# EAGLE library part MICROUSB (library Nordic_misc)
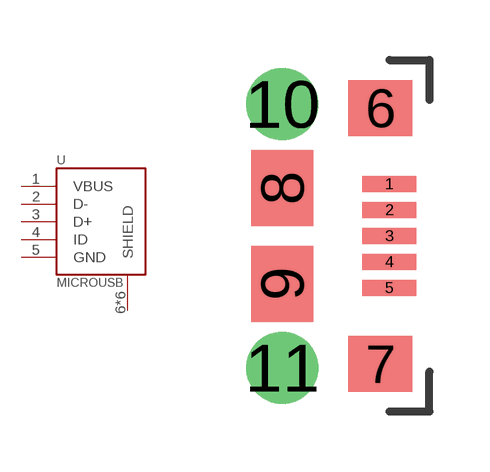
[diagram p1: symbol with the pads of USB-MICRO-B-RA-SMD-PIP; footprint USB-MICRO-B-RA-SMD-PIP]

Designator prefix -

## MICROUSB  [USB-MICRO-B-RA-SMD-PIP]
1  VBUS
2  D-
3  D+
4  ID
5  GND
6  SHIELD
7  SHIELD
8  SHIELD
9  SHIELD
10  SHIELD
11  SHIELD

## Footprint USB-MICRO-B-RA-SMD-PIP (pad centres in mm)
smd 1.35 x 0.4: 1 0,1.3; 2 0,0.65; 3 0,0; 4 0,-0.65; 5 0,-1.3
smd 1.6 x 1.4: 6 -0.225,3.2; 7 -0.225,-3.2
smd 1.55 x 1.9: 8 -2.675,1.2; 9 -2.675,-1.2
drill 1.2: 10 -2.675,3.3; 11 -2.675,-3.3